# Altium schematic symbol library SN74HC14N.SchLib: 1 symbol
Pins are listed as number, name and electrical type; pins without a type are passive.

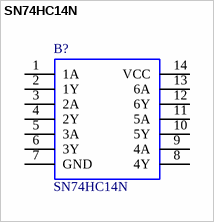
[diagram p0: symbol SN74HC14N]

## SN74HC14N
designator B?
Hex invertor,SN74HC14N DIP14 2-6V 25pcs; Manufacturer_Name: Texas Instruments; Geometry.Height: mm; Supplier_Name: RS; RS Part Number: 0442943; Manufacturer_Part_Number: SN74HC14N; Allied_Number: *; Other Part Number: *; Datasheet Link: http://componentsearchengine.com/Datasheets/3/SN74HC14N.pdf; 3D Package: *
footprint DIP254P762X508-14
pins: 1 1A, 2 1Y, 3 2A, 4 2Y, 5 3A, 6 3Y, 7 GND, 8 4Y, 9 4A, 10 5Y, 11 5A, 12 6Y, 13 6A, 14 VCC